# Altium footprint library capstone.PcbLib: 13 footprints
Each footprint in its own frame and in the unit in brackets; x right, y up, seen from the top. Pads: shape width x height; smd on the part's side, far side on the other; paste and mask are expansions set on the pad; w line width, h text height; cw(c..) or ccw(c..) is an arc to the next point about the centre after c.
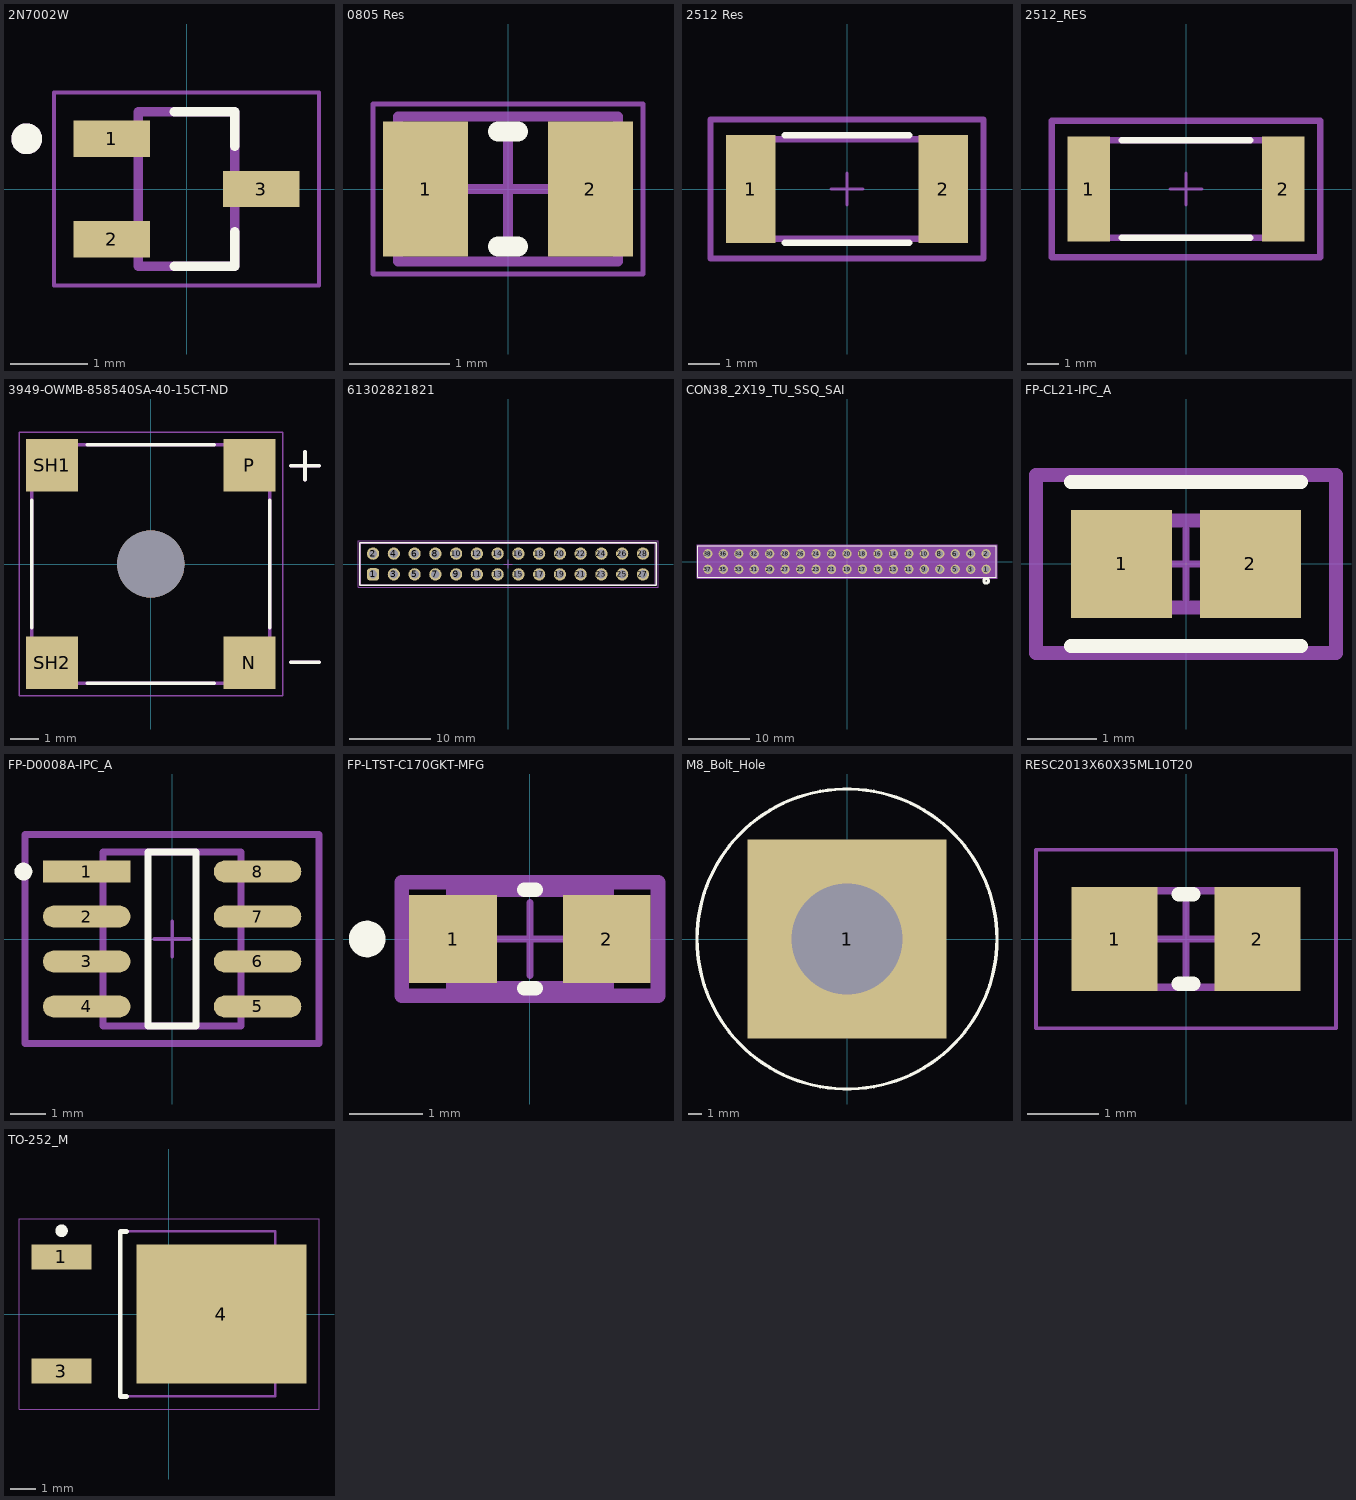
[diagram p0: the footprints below, top view; thin cyan lines are the x and y axes]

## 2N7002W [mm] "STANDARD LOGIC LEVEL SMT MOSFET"
height 0.1
pads (3):
  rect 0.99x0.47 smd paste+0 mask+0.102: 1(-0.97,0.65) 2(-0.97,-0.65) 3(0.97,0)
Top Overlay:
  circle w0.2: c-2.07,0.65 r0.1
  lines w0.127: -0.155,-1 0.625,-1 0.625,-0.555 ; -0.155,1 0.625,1 0.625,0.555
Mechanical 13:
  circle w0.2: c-2.07,0.65 r0.1
  lines w0.127: -0.625,-1 0.625,-1 0.625,1 -0.625,1 -0.625,-1
Mechanical 15:
  lines w0.05: -1.715,-1.25 -1.715,1.25 1.715,1.25 1.715,-1.25 -1.715,-1.25

## 0805 Res [mm] "Chip Resistor, 2-Leads, Body 2.00x1.25mm, IPC High Density"
height 0.6
pads (2):
  rect 0.85x1.35 smd: 1(-0.825,0) 2(0.825,0)
Top Overlay:
  lines w0.2: -0.1,-0.575 0.1,-0.575 ; -0.1,0.575 0.1,0.575
Mechanical 13:
  lines w0.1: -1.1,-0.725 1.1,-0.725 1.1,0.725 -1.1,0.725 -1.1,-0.725
Mechanical 15:
  lines w0.05: -1.35,-0.85 1.35,-0.85 1.35,0.85 -1.35,0.85 -1.35,-0.85
  lines w0.1: -0.5,0 0.5,0 ; 0,-0.5 0,0.5
3D body: height 0.6, standoff 0, extent 0.8,-0.725 1.1,0.725
3D body: height 0.6, standoff 0, extent -1.1,-0.725 -0.8,0.725
3D body: height 0.6, standoff 0, extent -0.8,-0.725 0.8,0.725

## 2512 Res [mil]
pads (2):
  rect 61.21x134.18 smd paste+0 mask+0: 1(-120.11,0) 2(120.11,0)
Top Overlay:
  lines w7.87: -77.7,-67.09 77.7,-67.09 ; -77.7,67.09 77.7,67.09
Top 3D Body:
  lines w7.87: -125,-62.01 -125,62.01 125,62.01 125,-62.01 -125,-62.01
Top Assembly:
  lines w7.87: -170.4,-86.78 -170.4,86.78 170.4,86.78 170.4,-86.78 -170.4,-86.78
  text ".Designator" at 0,7.39 h39.37
Top Courtyard:
  lines w7.87: -170.4,-86.78 -170.4,86.78 170.4,86.78 170.4,-86.78 -170.4,-86.78
Top Component Center:
  lines w3.94: -19.68,0 19.68,0 ; 0,-19.68 0,19.68
3D body "Res_Stackpole_Electronics_CSRN2512FKR200_eec.STEP": height 10, standoff 0, extent -170.4,-86.78 170.4,86.78

## 2512_RES [mil]
pads (2):
  rect 53.47x132.21 smd paste+0 mask+0: 1(-122.13,0) 2(122.13,0)
Top Overlay:
  lines w7.87: -80.63,-61.02 80.63,-61.02 ; -80.63,61.02 80.63,61.02
Top Assembly:
  lines w7.87: -168.55,-85.79 -168.55,85.79 168.55,85.79 168.55,-85.79 -168.55,-85.79
  text ".Designator" at 0,7.39 h39.37
Top Courtyard:
  lines w7.87: -168.55,-85.79 -168.55,85.79 168.55,85.79 168.55,-85.79 -168.55,-85.79
Top Component Center:
  lines w3.94: -19.68,0 19.68,0 ; 0,-19.68 0,19.68
Board:
  lines w7.87: -125,-61.02 -125,61.02 125,61.02 125,-61.02 -125,-61.02
3D body "Res_Yageo_AC2512FK-0712K1L_eec.STEP": height 10, standoff 0, extent -168.55,-85.79 168.55,85.79

## 3949-OWMB-858540SA-40-15CT-ND [mm] "SMT BUZZER"
pads (5):
  rect 1.86x1.86 smd: N(3.52,-3.52) P(3.52,3.52) SH1(-3.52,3.52) SH2(-3.52,-3.52)
  round 2.4 hole 2.4 unplated: ""(0,0)
Top Overlay:
  lines w0.127: -4.25,-2.27 -4.25,2.27 ; -2.27,-4.25 2.27,-4.25 ; -2.27,4.25 2.27,4.25 ; 4.25,-2.27 4.25,2.27 ; 5,-3.5 6,-3.5 ; 5,3.5 6,3.5 ; 5.5,3 5.5,4
Mechanical 13:
  lines w0.127: 5,-3.5 6,-3.5 ; 5,3.5 6,3.5 ; 5.5,3 5.5,4 ; -4.25,-2.75 -4.25,2.75 -2.75,4.25 2.75,4.25 4.25,2.75 4.25,-2.75 2.75,-4.25 -2.75,-4.25 -4.25,-2.75
Mechanical 15:
  lines w0.05: -4.7,-4.7 4.7,-4.7 4.7,4.7 -4.7,4.7 -4.7,-4.7

## 61302821821 [mm] "Socket Header, Pitch 2.54 mm, THT, Vertical, dual row, 28p"
height 8.4
pads (28):
  rrect50% 1.5x1.5 hole 1.02: 1(-16.51,-1.27)
  round 1.5 hole 1.02: 2(-16.51,1.27) 3(-13.97,-1.27) 4(-13.97,1.27) 5(-11.43,-1.27) 6(-11.43,1.27) 7(-8.89,-1.27) 8(-8.89,1.27) 9(-6.35,-1.27) 10(-6.35,1.27) 11(-3.81,-1.27) 12(-3.81,1.27) 13(-1.27,-1.27) 14(-1.27,1.27) 15(1.27,-1.27) 16(1.27,1.27) 17(3.81,-1.27) 18(3.81,1.27) 19(6.35,-1.27) 20(6.35,1.27) 21(8.89,-1.27) 22(8.89,1.27) 23(11.43,-1.27) 24(11.43,1.27) 25(13.97,-1.27) 26(13.97,1.27) 27(16.51,-1.27) 28(16.51,1.27)
Top Overlay:
  lines w0.2: -18.155,-2.615 -18.155,2.615 18.155,2.615 18.155,-2.615 -18.155,-2.615
Top Courtyard:
  lines w0.05: -18.355,-2.815 18.355,-2.815 18.355,2.815 -18.355,2.815 -18.355,-2.815
Top Component Center:
  lines w0.05: -0.5,0 0.5,0 ; 0,-0.5 0,0.5
Top Designator:
  text ".Designator" at -7.498,-0.5 h1.5
Top Component Outline:
  lines w0.1: -18.03,-2.54 18.03,-2.54 18.03,2.54 -18.03,2.54 -18.03,-2.54
3D body "61302821821.stp": height 8.45, standoff -3.05, extent -18.03,-2.54 18.03,2.54

## CON38_2X19_TU_SSQ_SAI [mil]
pads (38):
  round 60 hole 40 paste-99999 mask+0: 1(900,-50) 2(900,50) 3(800,-50) 4(800,50) 5(700,-50) 6(700,50) 7(600,-50) 8(600,50) 9(500,-50) 10(500,50) 11(400,-50) 12(400,50) 13(300,-50) 14(300,50) 15(200,-50) 16(200,50) 17(100,-50) 18(100,50) 19(0,-50) 20(0,50) 21(-100,-50) 22(-100,50) 23(-200,-50) 24(-200,50) 25(-300,-50) 26(-300,50) 27(-400,-50) 28(-400,50) 29(-500,-50) 30(-500,50) 31(-600,-50) 32(-600,50) 33(-700,-50) 34(-700,50) 35(-800,-50) 36(-800,50) 37(-900,-50) 38(-900,50)
Top Overlay:
  circle w20: c900,-125 r15
  lines w6: -965,-102 965,-102 965,103 -965,103 -965,-102
  text ".Designator" at -137.5,-25 h50
Bottom Overlay:
  circle w20: c900,-125 r15
Mechanical 13:
  circle w1: c900,-50 r10
  lines w1: -960,-97 960,-97 960,98 -960,98 -960,-97
  text ".Designator" at -137.5,-25 h50
Mechanical 15:
  region: 970,108 940,108 -940,108 -970,108 -970,-107 -940,-107 940,-107 970,-107
  lines w6: -970,-107 -970,108 -940,108 940,108 970,108 970,-107 940,-107 -940,-107 -970,-107

## FP-CL21-IPC_A [mil]
pads (2):
  rect 57.27x61.27 smd paste+0 mask+0: 1(-36.45,0) 2(36.45,0)
Top Overlay:
  lines w7.87: -65.08,-46.38 65.08,-46.38 ; -65.08,46.38 65.08,46.38
Top 3D Body:
  lines w7.87: -39.37,-24.61 39.37,-24.61 39.37,24.61 -39.37,24.61 -39.37,-24.61
Top Assembly:
  lines w7.87: -84.77,-50.32 84.77,-50.32 84.77,50.32 -84.77,50.32 -84.77,-50.32
  text ".Designator" at 0,7.39 h39.37
Top Courtyard:
  lines w7.87: -84.77,-50.32 84.77,-50.32 84.77,50.32 -84.77,50.32 -84.77,-50.32
Top Component Center:
  lines w3.94: -19.68,0 19.68,0 ; 0,-19.68 0,19.68
3D body "Cap_Samsung_CL21B273KBANNNC_eec.STEP": height 10, standoff 0, extent -84.77,-50.32 84.77,50.32

## FP-D0008A-IPC_A [mil]
pads (8):
  rect 97.21x24.49 smd paste+0 mask+0: 1(-95.02,75)
  rrect100% 97.21x24.49 smd paste+0 mask+0: 2(-95.02,25) 3(-95.02,-25) 4(-95.02,-75) 5(95.02,-75) 6(95.02,-25) 7(95.02,25) 8(95.02,75)
Top Overlay:
  circle w9.84: c-165.28,75 r4.92
  lines w7.87: -26.73,-96.56 26.73,-96.56 26.73,96.56 -26.73,96.56 -26.73,-96.56
Top 3D Body:
  lines w7.87: -76.67,-96.56 76.67,-96.56 76.67,96.56 -76.67,96.56 -76.67,-96.56
Top Assembly:
  lines w7.87: -163.31,-116.24 163.31,-116.24 163.31,116.24 -163.31,116.24 -163.31,-116.24
  text ".Designator" at 0,7.39 h39.37
Top Courtyard:
  lines w7.87: -163.31,-116.24 163.31,-116.24 163.31,116.24 -163.31,116.24 -163.31,-116.24
Top Component Center:
  lines w3.94: -19.68,0 19.68,0 ; 0,-19.68 0,19.68
3D body "IC_Texas_Instruments_ISO7220ADR_eec.STEP": height 10, standoff 0, extent -163.31,-116.24 163.31,116.24

## FP-LTST-C170GKT-MFG [mm]
pads (2):
  rect 1.2x1.2 smd paste+0 mask+0: 1(-1.05,0) 2(1.05,0)
Top Overlay:
  circle w0.25: c-2.225,0 r0.125
  lines w0.2: -0.075,-0.675 0.075,-0.675 ; -0.075,0.675 0.075,0.675
Top 3D Body:
  lines w0.2: -1.05,-0.675 1.05,-0.675 1.05,0.675 -1.05,0.675 -1.05,-0.675
Top Assembly:
  lines w0.2: -1.75,-0.775 1.75,-0.775 1.75,0.775 -1.75,0.775 -1.75,-0.775
  text ".Designator" at 0,-0.001 h1
Top Courtyard:
  lines w0.2: -1.75,-0.775 1.75,-0.775 1.75,0.775 -1.75,0.775 -1.75,-0.775
Top Component Center:
  lines w0.1: -0.5,0 0.5,0 ; 0,-0.5 0,0.5
3D body "Diode_Lite-On_LTST-C170GKT_eec.STEP": height 0.25, standoff 0, extent -1.75,-0.775 1.75,0.775

## M8_Bolt_Hole [mm]
pads (1):
  rect 15x15 hole 8.4: 1(0,0)
Top Overlay:
  circle w0.254: c0,0 r11.314

## RESC2013X60X35ML10T20 [mm] "Chip Resistor, 2-Leads, Body 2.1x1.35mm, IPC Low Density"
height 0.6
pads (2):
  rect 1.2x1.45 smd: 1(-1,0) 2(1,0)
Top Overlay:
  lines w0.2: -0.1,-0.625 0.1,-0.625 ; -0.1,0.625 0.1,0.625
Mechanical 13:
  lines w0.1: -1.05,-0.675 1.05,-0.675 1.05,0.675 -1.05,0.675 -1.05,-0.675
Mechanical 15:
  lines w0.05: -2.1,-1.25 2.1,-1.25 2.1,1.25 -2.1,1.25 -2.1,-1.25
  lines w0.1: -0.5,0 0.5,0 ; 0,-0.5 0,0.5
3D body "RESC2012X06N.step": height 0.6, standoff 0, extent -1.05,-0.675 1.05,0.675

## TO-252_M [mm] "D-PAK, 4-Leads, Body 6.1x6.5mm, Pitch 2.28mm, Lead Span 9.7mm, IPC Low Density"
height 2.4
pads (3):
  rect 2.4x1 smd: 1(-4.3,2.28) 3(-4.3,-2.28)
  rect 6.8x5.55 smd: 4(2.1,0)
Top Overlay:
  circle w0.25: c-4.3,3.33 r0.125
  lines w0.2: -1.7,-3.3 -1.95,-3.3 -1.95,3.3 -1.7,3.3
Mechanical 13:
  lines w0.1: -1.95,-3.3 4.25,-3.3 4.25,3.3 -1.95,3.3 -1.95,-3.3
Mechanical 15:
  lines w0.05: -6,-3.8 6,-3.8 6,3.8 -6,3.8 -6,-3.8
  lines w0.1: -0.5,0 0.5,0 ; 0,-0.5 0,0.5
3D body: height 2.4, standoff 0, extent -1.95,-3.3 4.25,3.3